# Altium schematic symbol library C-C0603C225K4PACTU.Schlib: 1 symbol
Pins are listed as number, name and electrical type; pins without a type are passive.

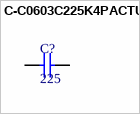
[diagram p0: symbol C-C0603C225K4PACTU]

## C-C0603C225K4PACTU
designator C?, comment 225
Multilayer Ceramic Capacitors MLCC - SMD/SMT 6.3volts 4.7uF X5R 10%
pins: 1, 2